# EAGLE library part 6-PIN_ANGLED_HEADER (library myLib-01-Headers)
FEMALE HEADER
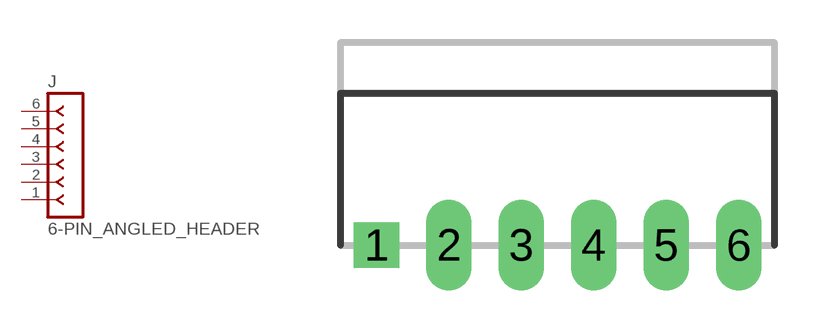
[diagram p7: symbol with the pads of 6-PIN_ANGLED_HEADER; footprint 6-PIN_ANGLED_HEADER]

Designator prefix J

## 6-PIN_ANGLED_HEADERKK-4455-A06  [6-PIN_ANGLED_HEADER]
1  6  pas
2  5  pas
3  4  pas
4  3  pas
5  2  pas
6  1  pas

## Footprint 6-PIN_ANGLED_HEADER (pad centres in mm)
KK100 Molex 4455 Series, Right Angle, 0.1" pitch
drill 1.067 square: 1 0,0
drill 1.067 long: 2 2.54,0; 3 5.08,0; 4 7.62,0; 5 10.16,0; 6 12.7,0